# EAGLE library part ADXL377BCPZ-RL7 (library RescueRunner)
Accelerometers 3-Axis High g Analog MEMS Source: Datasheet <http://uk.rs-online.com/web/p/products/1832638P>
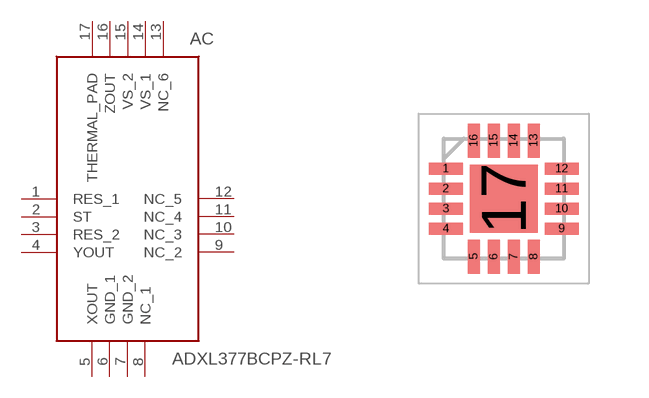
[diagram p8: symbol with the pads of QFN50P300X300X150-17N; footprint QFN50P300X300X150-17N]

Designator prefix AC

## ADXL377BCPZ-RL7 (DESCRIPTION: Accelerometers 3-Axis High g Analog MEMS; HEIGHT: 1.5mm; MANUFACTURER_NAME: Analog Devices; MANUFACTURER_PART_NUMBER: ADXL377BCPZ-RL7; RS_PART_NUMBER: 1832638P; RS_PRICE-STOCK: http://uk.rs-online.com/web/p/products/1832638P)  [QFN50P300X300X150-17N]
1  RES_1
2  ST
3  RES_2
4  YOUT
5  XOUT
6  GND_1
7  GND_2
8  NC_1
9  NC_2
10  NC_3
11  NC_4
12  NC_5
13  NC_6
14  VS_1
15  VS_2
16  ZOUT
17  THERMAL_PAD

## Footprint QFN50P300X300X150-17N (pad centres in mm)
cp-16-28
smd 0.85 x 0.3: 1 -1.45,0.75; 2 -1.45,0.25; 3 -1.45,-0.25; 4 -1.45,-0.75; 9 1.45,-0.75; 10 1.45,-0.25; 11 1.45,0.25; 12 1.45,0.75
smd 0.3 x 0.85: 5 -0.75,-1.45; 6 -0.25,-1.45; 7 0.25,-1.45; 8 0.75,-1.45; 13 0.75,1.45; 14 0.25,1.45; 15 -0.25,1.45; 16 -0.75,1.45
smd 1.7 x 1.7: 17 0,0